# Altium schematic symbol library MAX22200AETJ+.SchLib: 1 symbol
Pins are listed as number, name and electrical type; pins without a type are passive.

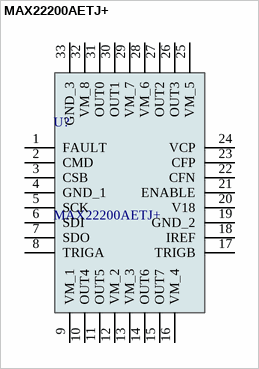
[diagram p0: symbol MAX22200AETJ+]

## MAX22200AETJ+
designator U?
Motor/Motion/Ignition Controllers & Drivers 36V, 1A Octal Integrated Serial-Controll; Manufacturer_Name: Analog Devices; Geometry.Height: 0.8mm; Manufacturer_Part_Number: MAX22200AETJ+; Mouser Part Number: *; Mouser Price/Stock: *; Arrow Part Number: MAX22200AETJ+; Arrow Price/Stock: https://www.arrow.com/en/products/max22200aetj/analog-devices?utm_currency=USD&region=nac; Datasheet Link: https://www.analog.com/media/en/technical-documentation/data-sheets/MAX22200.pdf
footprint QFN50P500X500X80-33N
pins: 1 FAULT, 2 CMD, 3 CSB, 4 GND_1, 5 SCK, 6 SDI, 7 SDO, 8 TRIGA, 9 VM_1, 10 OUT4, 11 OUT5, 12 VM_2, 13 VM_3, 14 OUT6, 15 OUT7, 16 VM_4, 17 TRIGB, 18 IREF, 19 GND_2, 20 V18, 21 ENABLE, 22 CFN, 23 CFP, 24 VCP, 25 VM_5, 26 OUT3, 27 OUT2, 28 VM_6, 29 VM_7, 30 OUT1, 31 OUT0, 32 VM_8, 33 GND_3